# EAGLE library part HD15531 (library micro-harris)
MICROCONTROLLER/MEMORY DEVICE
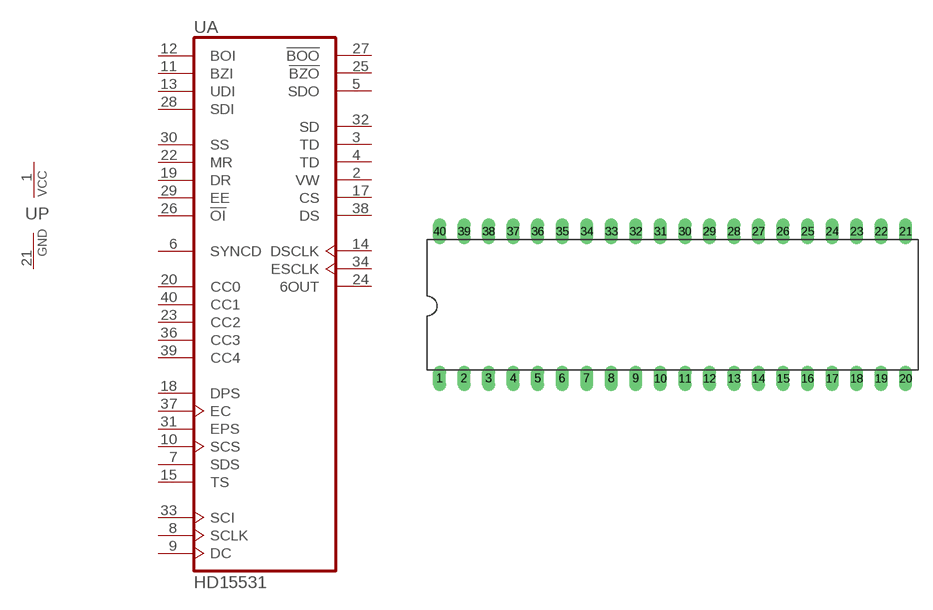
[diagram p29: symbol with the pads of DIL40; footprint DIL40]

Designator prefix U; gates A=HD15531 P=PWRN

## HD15531 (OC_FARNELL: unknown; OC_NEWARK: unknown)  [DIL40]
1  P:VCC  pwr
2  A:VW  out
3  A:TD  out
4  A:TD  out
5  A:SDO  out
6  A:SYNCD  in
7  A:SDS  in
8  A:SCLK  in
9  A:DC  in
10  A:SCS  in
11  A:BZI  in
12  A:BOI  in
13  A:UDI  in
14  A:DSCLK  out
15  A:TS  in
17  A:CS  out
18  A:DPS  in
19  A:DR  in
20  A:CC0  in
21  P:GND  pwr
22  A:MR  in
23  A:CC2  in
24  A:6OUT  out
25  A:!BZO  out
26  A:!OI  in
27  A:!BOO  out
28  A:SDI  in
29  A:EE  in
30  A:SS  in
31  A:EPS  in
32  A:SD  out
33  A:SCI  in
34  A:ESCLK  out
36  A:CC3  in
37  A:EC  in
38  A:DS  out
39  A:CC4  in
40  A:CC1  in

## Footprint DIL40 (pad centres in mm)
Dual In Line Package
drill 0.813 long: 1 -24.13,-7.62; 2 -21.59,-7.62; 3 -19.05,-7.62; 4 -16.51,-7.62; 5 -13.97,-7.62; 6 -11.43,-7.62; 7 -8.89,-7.62; 8 -6.35,-7.62; 9 -3.81,-7.62; 10 -1.27,-7.62; 11 1.27,-7.62; 12 3.81,-7.62; 13 6.35,-7.62; 14 8.89,-7.62; 15 11.43,-7.62; 16 13.97,-7.62; 17 16.51,-7.62; 18 19.05,-7.62; 19 21.59,-7.62; 20 24.13,-7.62; 21 24.13,7.62; 22 21.59,7.62; 23 19.05,7.62; 24 16.51,7.62; 25 13.97,7.62; 26 11.43,7.62; 27 8.89,7.62; 28 6.35,7.62; 29 3.81,7.62; 30 1.27,7.62; 31 -1.27,7.62; 32 -3.81,7.62; 33 -6.35,7.62; 34 -8.89,7.62; 35 -11.43,7.62; 36 -13.97,7.62; 37 -16.51,7.62; 38 -19.05,7.62; 39 -21.59,7.62; 40 -24.13,7.62